# Altium integrated library Vishay Roederstein Electrolytic Axial-Lead Capacitor.IntLib: 155 symbols (part 1 of 3)
Pins are listed as number, name and electrical type; pins without a type are passive.

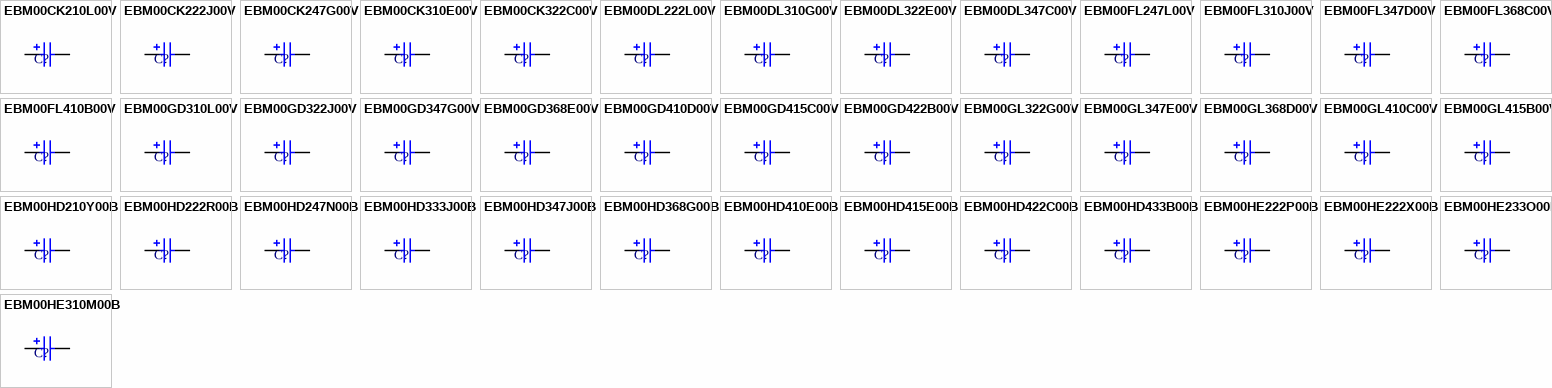
[diagram p0: symbols EBM00CK210L00V to EBM00HE310M00B]

## EBM00CK210L00V
designator C?
Aluminum Electrolytic Capacitor, Axial Miniature: 10uF, 100V; Note: Bulk Pack Part No. shown, refer to Manufacturer's Data Sheets for other package types; PCB_Layout: Complies with IPC-2221.; DrillSize: Nominal, Rounded To The Nearest 0.1mm; Published: 19-Mar-2004; DatasheetDocument: 8-Apr-2002; PackageReference: CAPPA14.05-10.5x6.3; Publisher: Altium Limited; ComponentLink1Description: Manufacturer Link; ComponentLink1URL: http://www.vishay.com/; ComponentLink2Description: Datasheet; ComponentLink2URL: http://www.vishay.com/docs/25140/elebegm.pdf; Value: 10uF
footprint CAPPA14.05-10.5x6.3 (Capacitor, Electrolytic, Axial; Body 10.5 x 6.3 mm (LxDia. max), Lead Dia. 0.6 mm (typ))
simulation model CAP (Capacitor)
signal-integrity model EBM00CK210L00V
pins: 1, 2
1 alternate drawing of the same symbol

## EBM00CK222J00V
designator C?
Aluminum Electrolytic Capacitor, Axial Miniature: 22uF, 63V; Note: Bulk Pack Part No. shown, refer to Manufacturer's Data Sheets for other package types; PCB_Layout: Complies with IPC-2221.; DrillSize: Nominal, Rounded To The Nearest 0.1mm; Published: 19-Mar-2004; DatasheetDocument: 8-Apr-2002; PackageReference: CAPPA14.05-10.5x6.3; Publisher: Altium Limited; ComponentLink1Description: Manufacturer Link; ComponentLink1URL: http://www.vishay.com/; ComponentLink2Description: Datasheet; ComponentLink2URL: http://www.vishay.com/docs/25140/elebegm.pdf; Value: 22uF
footprint CAPPA14.05-10.5x6.3 (Capacitor, Electrolytic, Axial; Body 10.5 x 6.3 mm (LxDia. max), Lead Dia. 0.6 mm (typ))
simulation model CAP (Capacitor)
signal-integrity model EBM00CK222J00V
pins: 1, 2
1 alternate drawing of the same symbol

## EBM00CK247G00V
designator C?
Aluminum Electrolytic Capacitor, Axial Miniature: 47uF, 40V; Note: Bulk Pack Part No. shown, refer to Manufacturer's Data Sheets for other package types; PCB_Layout: Complies with IPC-2221.; DrillSize: Nominal, Rounded To The Nearest 0.1mm; Published: 19-Mar-2004; DatasheetDocument: 8-Apr-2002; PackageReference: CAPPA14.05-10.5x6.3; Publisher: Altium Limited; ComponentLink1Description: Manufacturer Link; ComponentLink1URL: http://www.vishay.com/; ComponentLink2Description: Datasheet; ComponentLink2URL: http://www.vishay.com/docs/25140/elebegm.pdf; Value: 47uF
footprint CAPPA14.05-10.5x6.3 (Capacitor, Electrolytic, Axial; Body 10.5 x 6.3 mm (LxDia. max), Lead Dia. 0.6 mm (typ))
simulation model CAP (Capacitor)
signal-integrity model EBM00CK247G00V
pins: 1, 2
1 alternate drawing of the same symbol

## EBM00CK310E00V
designator C?
Aluminum Electrolytic Capacitor, Axial Miniature: 100uF, 25V; Note: Bulk Pack Part No. shown, refer to Manufacturer's Data Sheets for other package types; PCB_Layout: Complies with IPC-2221.; DrillSize: Nominal, Rounded To The Nearest 0.1mm; Published: 19-Mar-2004; DatasheetDocument: 8-Apr-2002; PackageReference: CAPPA14.05-10.5x6.3; Publisher: Altium Limited; ComponentLink1Description: Manufacturer Link; ComponentLink1URL: http://www.vishay.com/; ComponentLink2Description: Datasheet; ComponentLink2URL: http://www.vishay.com/docs/25140/elebegm.pdf; Value: 100uF
footprint CAPPA14.05-10.5x6.3 (Capacitor, Electrolytic, Axial; Body 10.5 x 6.3 mm (LxDia. max), Lead Dia. 0.6 mm (typ))
simulation model CAP (Capacitor)
signal-integrity model EBM00CK310E00V
pins: 1, 2
1 alternate drawing of the same symbol

## EBM00CK322C00V
designator C?
Aluminum Electrolytic Capacitor, Axial Miniature: 220uF, 10V; Note: Bulk Pack Part No. shown, refer to Manufacturer's Data Sheets for other package types; PCB_Layout: Complies with IPC-2221.; DrillSize: Nominal, Rounded To The Nearest 0.1mm; Published: 19-Mar-2004; DatasheetDocument: 8-Apr-2002; PackageReference: CAPPA14.05-10.5x6.3; Publisher: Altium Limited; ComponentLink1Description: Manufacturer Link; ComponentLink1URL: http://www.vishay.com/; ComponentLink2Description: Datasheet; ComponentLink2URL: http://www.vishay.com/docs/25140/elebegm.pdf; Value: 220uF
footprint CAPPA14.05-10.5x6.3 (Capacitor, Electrolytic, Axial; Body 10.5 x 6.3 mm (LxDia. max), Lead Dia. 0.6 mm (typ))
simulation model CAP (Capacitor)
signal-integrity model EBM00CK322C00V
pins: 1, 2
1 alternate drawing of the same symbol

## EBM00DL222L00V
designator C?
Aluminum Electrolytic Capacitor, Axial Miniature: 22uF, 100V; Note: Bulk Pack Part No. shown, refer to Manufacturer's Data Sheets for other package types; PCB_Layout: Complies with IPC-2221.; DrillSize: Nominal, Rounded To The Nearest 0.1mm; Published: 19-Mar-2004; DatasheetDocument: 8-Apr-2002; PackageReference: CAPPA23.6-18.5x6.9; Publisher: Altium Limited; ComponentLink1Description: Manufacturer Link; ComponentLink1URL: http://www.vishay.com/; ComponentLink2Description: Datasheet; ComponentLink2URL: http://www.vishay.com/docs/25140/elebegm.pdf; Value: 22uF
footprint CAPPA23.6-18.5x6.9 (Capacitor, Electrolytic, Axial; Body 18.5 x 6.9 mm (LxDia. max), Lead Dia. 0.8 mm (typ))
simulation model CAP (Capacitor)
signal-integrity model EBM00DL222L00V
pins: 1, 2
1 alternate drawing of the same symbol

## EBM00DL310G00V
designator C?
Aluminum Electrolytic Capacitor, Axial Miniature: 100uF, 40V; Note: Bulk Pack Part No. shown, refer to Manufacturer's Data Sheets for other package types; PCB_Layout: Complies with IPC-2221.; DrillSize: Nominal, Rounded To The Nearest 0.1mm; Published: 19-Mar-2004; DatasheetDocument: 8-Apr-2002; PackageReference: CAPPA23.6-18.5x6.9; Publisher: Altium Limited; ComponentLink1Description: Manufacturer Link; ComponentLink1URL: http://www.vishay.com/; ComponentLink2Description: Datasheet; ComponentLink2URL: http://www.vishay.com/docs/25140/elebegm.pdf; Value: 100uF
footprint CAPPA23.6-18.5x6.9 (Capacitor, Electrolytic, Axial; Body 18.5 x 6.9 mm (LxDia. max), Lead Dia. 0.8 mm (typ))
simulation model CAP (Capacitor)
signal-integrity model EBM00DL310G00V
pins: 1, 2
1 alternate drawing of the same symbol

## EBM00DL322E00V
designator C?
Aluminum Electrolytic Capacitor, Axial Miniature: 220uF, 25V; Note: Bulk Pack Part No. shown, refer to Manufacturer's Data Sheets for other package types; PCB_Layout: Complies with IPC-2221.; DrillSize: Nominal, Rounded To The Nearest 0.1mm; Published: 19-Mar-2004; DatasheetDocument: 8-Apr-2002; PackageReference: CAPPA23.6-18.5x6.9; Publisher: Altium Limited; ComponentLink1Description: Manufacturer Link; ComponentLink1URL: http://www.vishay.com/; ComponentLink2Description: Datasheet; ComponentLink2URL: http://www.vishay.com/docs/25140/elebegm.pdf; Value: 220uF
footprint CAPPA23.6-18.5x6.9 (Capacitor, Electrolytic, Axial; Body 18.5 x 6.9 mm (LxDia. max), Lead Dia. 0.8 mm (typ))
simulation model CAP (Capacitor)
signal-integrity model EBM00DL322E00V
pins: 1, 2
1 alternate drawing of the same symbol

## EBM00DL347C00V
designator C?
Aluminum Electrolytic Capacitor, Axial Miniature: 470uF, 10V; Note: Bulk Pack Part No. shown, refer to Manufacturer's Data Sheets for other package types; PCB_Layout: Complies with IPC-2221.; DrillSize: Nominal, Rounded To The Nearest 0.1mm; Published: 19-Mar-2004; DatasheetDocument: 8-Apr-2002; PackageReference: CAPPA23.6-18.5x6.9; Publisher: Altium Limited; ComponentLink1Description: Manufacturer Link; ComponentLink1URL: http://www.vishay.com/; ComponentLink2Description: Datasheet; ComponentLink2URL: http://www.vishay.com/docs/25140/elebegm.pdf; Value: 470uF
footprint CAPPA23.6-18.5x6.9 (Capacitor, Electrolytic, Axial; Body 18.5 x 6.9 mm (LxDia. max), Lead Dia. 0.8 mm (typ))
simulation model CAP (Capacitor)
signal-integrity model EBM00DL347C00V
pins: 1, 2
1 alternate drawing of the same symbol

## EBM00FL247L00V
designator C?
Aluminum Electrolytic Capacitor, Axial Miniature: 47uF, 100V; Note: Bulk Pack Part No. shown, refer to Manufacturer's Data Sheets for other package types; PCB_Layout: Complies with IPC-2221.; DrillSize: Nominal, Rounded To The Nearest 0.1mm; Published: 19-Mar-2004; DatasheetDocument: 8-Apr-2002; PackageReference: CAPPA23.6-18.5x8.5; Publisher: Altium Limited; ComponentLink1Description: Manufacturer Link; ComponentLink1URL: http://www.vishay.com/; ComponentLink2Description: Datasheet; ComponentLink2URL: http://www.vishay.com/docs/25140/elebegm.pdf; Value: 47uF
footprint CAPPA23.6-18.5x8.5 (Capacitor, Electrolytic, Axial; Body 18.5 x 8.5 mm (LxDia. max), Lead Dia. 0.8 mm (typ))
simulation model CAP (Capacitor)
signal-integrity model EBM00FL247L00V
pins: 1, 2
1 alternate drawing of the same symbol

## EBM00FL310J00V
designator C?
Aluminum Electrolytic Capacitor, Axial Miniature: 100uF, 63V; Note: Bulk Pack Part No. shown, refer to Manufacturer's Data Sheets for other package types; PCB_Layout: Complies with IPC-2221.; DrillSize: Nominal, Rounded To The Nearest 0.1mm; Published: 19-Mar-2004; DatasheetDocument: 8-Apr-2002; PackageReference: CAPPA23.6-18.5x8.5; Publisher: Altium Limited; ComponentLink1Description: Manufacturer Link; ComponentLink1URL: http://www.vishay.com/; ComponentLink2Description: Datasheet; ComponentLink2URL: http://www.vishay.com/docs/25140/elebegm.pdf; Value: 100uF
footprint CAPPA23.6-18.5x8.5 (Capacitor, Electrolytic, Axial; Body 18.5 x 8.5 mm (LxDia. max), Lead Dia. 0.8 mm (typ))
simulation model CAP (Capacitor)
signal-integrity model EBM00FL310J00V
pins: 1, 2
1 alternate drawing of the same symbol

## EBM00FL347D00V
designator C?
Aluminum Electrolytic Capacitor, Axial Miniature: 470uF, 16V; Note: Bulk Pack Part No. shown, refer to Manufacturer's Data Sheets for other package types; PCB_Layout: Complies with IPC-2221.; DrillSize: Nominal, Rounded To The Nearest 0.1mm; Published: 19-Mar-2004; DatasheetDocument: 8-Apr-2002; PackageReference: CAPPA23.6-18.5x8.5; Publisher: Altium Limited; ComponentLink1Description: Manufacturer Link; ComponentLink1URL: http://www.vishay.com/; ComponentLink2Description: Datasheet; ComponentLink2URL: http://www.vishay.com/docs/25140/elebegm.pdf; Value: 470uF
footprint CAPPA23.6-18.5x8.5 (Capacitor, Electrolytic, Axial; Body 18.5 x 8.5 mm (LxDia. max), Lead Dia. 0.8 mm (typ))
simulation model CAP (Capacitor)
signal-integrity model EBM00FL347D00V
pins: 1, 2
1 alternate drawing of the same symbol

## EBM00FL368C00V
designator C?
Aluminum Electrolytic Capacitor, Axial Miniature: 680uF, 10V; Note: Bulk Pack Part No. shown, refer to Manufacturer's Data Sheets for other package types; PCB_Layout: Complies with IPC-2221.; DrillSize: Nominal, Rounded To The Nearest 0.1mm; Published: 19-Mar-2004; DatasheetDocument: 8-Apr-2002; PackageReference: CAPPA23.6-18.5x8.5; Publisher: Altium Limited; ComponentLink1Description: Manufacturer Link; ComponentLink1URL: http://www.vishay.com/; ComponentLink2Description: Datasheet; ComponentLink2URL: http://www.vishay.com/docs/25140/elebegm.pdf; Value: 680uF
footprint CAPPA23.6-18.5x8.5 (Capacitor, Electrolytic, Axial; Body 18.5 x 8.5 mm (LxDia. max), Lead Dia. 0.8 mm (typ))
simulation model CAP (Capacitor)
signal-integrity model EBM00FL368C00V
pins: 1, 2
1 alternate drawing of the same symbol

## EBM00FL410B00V
designator C?
Aluminum Electrolytic Capacitor, Axial Miniature: 1000uF, 6.3V; Note: Bulk Pack Part No. shown, refer to Manufacturer's Data Sheets for other package types; PCB_Layout: Complies with IPC-2221.; DrillSize: Nominal, Rounded To The Nearest 0.1mm; Published: 19-Mar-2004; DatasheetDocument: 8-Apr-2002; PackageReference: CAPPA23.6-18.5x8.5; Publisher: Altium Limited; ComponentLink1Description: Manufacturer Link; ComponentLink1URL: http://www.vishay.com/; ComponentLink2Description: Datasheet; ComponentLink2URL: http://www.vishay.com/docs/25140/elebegm.pdf; Value: 1000uF
footprint CAPPA23.6-18.5x8.5 (Capacitor, Electrolytic, Axial; Body 18.5 x 8.5 mm (LxDia. max), Lead Dia. 0.8 mm (typ))
simulation model CAP (Capacitor)
signal-integrity model EBM00FL410B00V
pins: 1, 2
1 alternate drawing of the same symbol

## EBM00GD310L00V
designator C?
Aluminum Electrolytic Capacitor, Axial Miniature: 100uF, 100V; Note: Bulk Pack Part No. shown, refer to Manufacturer's Data Sheets for other package types; PCB_Layout: Complies with IPC-2221.; DrillSize: Nominal, Rounded To The Nearest 0.1mm; Published: 19-Mar-2004; DatasheetDocument: 8-Apr-2002; PackageReference: CAPPA31.1-26x10.5; Publisher: Altium Limited; ComponentLink1Description: Manufacturer Link; ComponentLink1URL: http://www.vishay.com/; ComponentLink2Description: Datasheet; ComponentLink2URL: http://www.vishay.com/docs/25140/elebegm.pdf; Value: 100uF
footprint CAPPA31.1-26x10.5 (Capacitor, Electrolytic, Axial; Body 26 x 10.5 mm (LxDia. max), Lead Dia. 0.8 mm (typ))
simulation model CAP (Capacitor)
signal-integrity model EBM00GD310L00V
pins: 1, 2
1 alternate drawing of the same symbol

## EBM00GD322J00V
designator C?
Aluminum Electrolytic Capacitor, Axial Miniature: 220uF, 63V; Note: Bulk Pack Part No. shown, refer to Manufacturer's Data Sheets for other package types; PCB_Layout: Complies with IPC-2221.; DrillSize: Nominal, Rounded To The Nearest 0.1mm; Published: 19-Mar-2004; DatasheetDocument: 8-Apr-2002; PackageReference: CAPPA31.1-26x10.5; Publisher: Altium Limited; ComponentLink1Description: Manufacturer Link; ComponentLink1URL: http://www.vishay.com/; ComponentLink2Description: Datasheet; ComponentLink2URL: http://www.vishay.com/docs/25140/elebegm.pdf; Value: 220uF
footprint CAPPA31.1-26x10.5 (Capacitor, Electrolytic, Axial; Body 26 x 10.5 mm (LxDia. max), Lead Dia. 0.8 mm (typ))
simulation model CAP (Capacitor)
signal-integrity model EBM00GD322J00V
pins: 1, 2
1 alternate drawing of the same symbol

## EBM00GD347G00V
designator C?
Aluminum Electrolytic Capacitor, Axial Miniature: 470uF, 40V; Note: Bulk Pack Part No. shown, refer to Manufacturer's Data Sheets for other package types; PCB_Layout: Complies with IPC-2221.; DrillSize: Nominal, Rounded To The Nearest 0.1mm; Published: 19-Mar-2004; DatasheetDocument: 8-Apr-2002; PackageReference: CAPPA31.1-26x10.5; Publisher: Altium Limited; ComponentLink1Description: Manufacturer Link; ComponentLink1URL: http://www.vishay.com/; ComponentLink2Description: Datasheet; ComponentLink2URL: http://www.vishay.com/docs/25140/elebegm.pdf; Value: 470uF
footprint CAPPA31.1-26x10.5 (Capacitor, Electrolytic, Axial; Body 26 x 10.5 mm (LxDia. max), Lead Dia. 0.8 mm (typ))
simulation model CAP (Capacitor)
signal-integrity model EBM00GD347G00V
pins: 1, 2
1 alternate drawing of the same symbol

## EBM00GD368E00V
designator C?
Aluminum Electrolytic Capacitor, Axial Miniature: 680uF, 25V; Note: Bulk Pack Part No. shown, refer to Manufacturer's Data Sheets for other package types; PCB_Layout: Complies with IPC-2221.; DrillSize: Nominal, Rounded To The Nearest 0.1mm; Published: 19-Mar-2004; DatasheetDocument: 8-Apr-2002; PackageReference: CAPPA31.1-26x10.5; Publisher: Altium Limited; ComponentLink1Description: Manufacturer Link; ComponentLink1URL: http://www.vishay.com/; ComponentLink2Description: Datasheet; ComponentLink2URL: http://www.vishay.com/docs/25140/elebegm.pdf; Value: 680uF
footprint CAPPA31.1-26x10.5 (Capacitor, Electrolytic, Axial; Body 26 x 10.5 mm (LxDia. max), Lead Dia. 0.8 mm (typ))
simulation model CAP (Capacitor)
signal-integrity model EBM00GD368E00V
pins: 1, 2
1 alternate drawing of the same symbol

## EBM00GD410D00V
designator C?
Aluminum Electrolytic Capacitor, Axial Miniature: 1000uF, 16V; Note: Bulk Pack Part No. shown, refer to Manufacturer's Data Sheets for other package types; PCB_Layout: Complies with IPC-2221.; DrillSize: Nominal, Rounded To The Nearest 0.1mm; Published: 19-Mar-2004; DatasheetDocument: 8-Apr-2002; PackageReference: CAPPA31.1-26x10.5; Publisher: Altium Limited; ComponentLink1Description: Manufacturer Link; ComponentLink1URL: http://www.vishay.com/; ComponentLink2Description: Datasheet; ComponentLink2URL: http://www.vishay.com/docs/25140/elebegm.pdf; Value: 1000uF
footprint CAPPA31.1-26x10.5 (Capacitor, Electrolytic, Axial; Body 26 x 10.5 mm (LxDia. max), Lead Dia. 0.8 mm (typ))
simulation model CAP (Capacitor)
signal-integrity model EBM00GD410D00V
pins: 1, 2
1 alternate drawing of the same symbol

## EBM00GD415C00V
designator C?
Aluminum Electrolytic Capacitor, Axial Miniature: 1500uF, 10V; Note: Bulk Pack Part No. shown, refer to Manufacturer's Data Sheets for other package types; PCB_Layout: Complies with IPC-2221.; DrillSize: Nominal, Rounded To The Nearest 0.1mm; Published: 19-Mar-2004; DatasheetDocument: 8-Apr-2002; PackageReference: CAPPA31.1-26x10.5; Publisher: Altium Limited; ComponentLink1Description: Manufacturer Link; ComponentLink1URL: http://www.vishay.com/; ComponentLink2Description: Datasheet; ComponentLink2URL: http://www.vishay.com/docs/25140/elebegm.pdf; Value: 1500uF
footprint CAPPA31.1-26x10.5 (Capacitor, Electrolytic, Axial; Body 26 x 10.5 mm (LxDia. max), Lead Dia. 0.8 mm (typ))
simulation model CAP (Capacitor)
signal-integrity model EBM00GD415C00V
pins: 1, 2
1 alternate drawing of the same symbol

## EBM00GD422B00V
designator C?
Aluminum Electrolytic Capacitor, Axial Miniature: 2200uF, 6.3V; Note: Bulk Pack Part No. shown, refer to Manufacturer's Data Sheets for other package types; PCB_Layout: Complies with IPC-2221.; DrillSize: Nominal, Rounded To The Nearest 0.1mm; Published: 19-Mar-2004; DatasheetDocument: 8-Apr-2002; PackageReference: CAPPA31.1-26x10.5; Publisher: Altium Limited; ComponentLink1Description: Manufacturer Link; ComponentLink1URL: http://www.vishay.com/; ComponentLink2Description: Datasheet; ComponentLink2URL: http://www.vishay.com/docs/25140/elebegm.pdf; Value: 2200uF
footprint CAPPA31.1-26x10.5 (Capacitor, Electrolytic, Axial; Body 26 x 10.5 mm (LxDia. max), Lead Dia. 0.8 mm (typ))
simulation model CAP (Capacitor)
signal-integrity model EBM00GD422B00V
pins: 1, 2
1 alternate drawing of the same symbol

## EBM00GL322G00V
designator C?
Aluminum Electrolytic Capacitor, Axial Miniature: 220uF, 40V; Note: Bulk Pack Part No. shown, refer to Manufacturer's Data Sheets for other package types; PCB_Layout: Complies with IPC-2221.; DrillSize: Nominal, Rounded To The Nearest 0.1mm; Published: 19-Mar-2004; DatasheetDocument: 8-Apr-2002; PackageReference: CAPPA23.6-18.5x10.5; Publisher: Altium Limited; ComponentLink1Description: Manufacturer Link; ComponentLink1URL: http://www.vishay.com/; ComponentLink2Description: Datasheet; ComponentLink2URL: http://www.vishay.com/docs/25140/elebegm.pdf; Value: 220uF
footprint CAPPA23.6-18.5x10.5 (Capacitor, Electrolytic, Axial; Body 18.5 x 10.5 mm (LxDia. max), Lead Dia. 0.8 mm (typ))
simulation model CAP (Capacitor)
signal-integrity model EBM00GL322G00V
pins: 1, 2
1 alternate drawing of the same symbol

## EBM00GL347E00V
designator C?
Aluminum Electrolytic Capacitor, Axial Miniature: 470uF, 25V; Note: Bulk Pack Part No. shown, refer to Manufacturer's Data Sheets for other package types; PCB_Layout: Complies with IPC-2221.; DrillSize: Nominal, Rounded To The Nearest 0.1mm; Published: 19-Mar-2004; DatasheetDocument: 8-Apr-2002; PackageReference: CAPPA23.6-18.5x10.5; Publisher: Altium Limited; ComponentLink1Description: Manufacturer Link; ComponentLink1URL: http://www.vishay.com/; ComponentLink2Description: Datasheet; ComponentLink2URL: http://www.vishay.com/docs/25140/elebegm.pdf; Value: 470uF
footprint CAPPA23.6-18.5x10.5 (Capacitor, Electrolytic, Axial; Body 18.5 x 10.5 mm (LxDia. max), Lead Dia. 0.8 mm (typ))
simulation model CAP (Capacitor)
signal-integrity model EBM00GL347E00V
pins: 1, 2
1 alternate drawing of the same symbol

## EBM00GL368D00V
designator C?
Aluminum Electrolytic Capacitor, Axial Miniature: 680uF, 16V; Note: Bulk Pack Part No. shown, refer to Manufacturer's Data Sheets for other package types; PCB_Layout: Complies with IPC-2221.; DrillSize: Nominal, Rounded To The Nearest 0.1mm; Published: 19-Mar-2004; DatasheetDocument: 8-Apr-2002; PackageReference: CAPPA23.6-18.5x10.5; Publisher: Altium Limited; ComponentLink1Description: Manufacturer Link; ComponentLink1URL: http://www.vishay.com/; ComponentLink2Description: Datasheet; ComponentLink2URL: http://www.vishay.com/docs/25140/elebegm.pdf; Value: 680uF
footprint CAPPA23.6-18.5x10.5 (Capacitor, Electrolytic, Axial; Body 18.5 x 10.5 mm (LxDia. max), Lead Dia. 0.8 mm (typ))
simulation model CAP (Capacitor)
signal-integrity model EBM00GL368D00V
pins: 1, 2
1 alternate drawing of the same symbol

## EBM00GL410C00V
designator C?
Aluminum Electrolytic Capacitor, Axial Miniature: 1000uF, 10V; Note: Bulk Pack Part No. shown, refer to Manufacturer's Data Sheets for other package types; PCB_Layout: Complies with IPC-2221.; DrillSize: Nominal, Rounded To The Nearest 0.1mm; Published: 19-Mar-2004; DatasheetDocument: 8-Apr-2002; PackageReference: CAPPA23.6-18.5x10.5; Publisher: Altium Limited; ComponentLink1Description: Manufacturer Link; ComponentLink1URL: http://www.vishay.com/; ComponentLink2Description: Datasheet; ComponentLink2URL: http://www.vishay.com/docs/25140/elebegm.pdf; Value: 1000uF
footprint CAPPA23.6-18.5x10.5 (Capacitor, Electrolytic, Axial; Body 18.5 x 10.5 mm (LxDia. max), Lead Dia. 0.8 mm (typ))
simulation model CAP (Capacitor)
signal-integrity model EBM00GL410C00V
pins: 1, 2
1 alternate drawing of the same symbol

## EBM00GL415B00V
designator C?
Aluminum Electrolytic Capacitor, Axial Miniature: 1500uF, 6.3V; Note: Bulk Pack Part No. shown, refer to Manufacturer's Data Sheets for other package types; PCB_Layout: Complies with IPC-2221.; DrillSize: Nominal, Rounded To The Nearest 0.1mm; Published: 19-Mar-2004; DatasheetDocument: 8-Apr-2002; PackageReference: CAPPA23.6-18.5x10.5; Publisher: Altium Limited; ComponentLink1Description: Manufacturer Link; ComponentLink1URL: http://www.vishay.com/; ComponentLink2Description: Datasheet; ComponentLink2URL: http://www.vishay.com/docs/25140/elebegm.pdf; Value: 1500uF
footprint CAPPA23.6-18.5x10.5 (Capacitor, Electrolytic, Axial; Body 18.5 x 10.5 mm (LxDia. max), Lead Dia. 0.8 mm (typ))
simulation model CAP (Capacitor)
signal-integrity model EBM00GL415B00V
pins: 1, 2
1 alternate drawing of the same symbol

## EBM00HD210Y00B
designator C?
Aluminum Electrolytic Capacitor, Axial Miniature: 10uF, 500V; Note: Bulk Pack Part No. shown, refer to Manufacturer's Data Sheets for other package types; PCB_Layout: Complies with IPC-2221.; DrillSize: Nominal, Rounded To The Nearest 0.1mm; Published: 19-Mar-2004; DatasheetDocument: 8-Apr-2002; PackageReference: CAPPA31.6-26.5x12.5; Publisher: Altium Limited; ComponentLink1Description: Manufacturer Link; ComponentLink1URL: http://www.vishay.com/; ComponentLink2Description: Datasheet; ComponentLink2URL: http://www.vishay.com/docs/25140/elebegm.pdf; Value: 10uF
footprint CAPPA31.6-26.5x12.5 (Capacitor, Electrolytic, Axial; Body 26.5 x 12.5 mm (LxDia. max), Lead Dia. 0.8 mm (typ))
simulation model CAP (Capacitor)
signal-integrity model EBM00HD210Y00B
pins: 1, 2
1 alternate drawing of the same symbol

## EBM00HD222R00B
designator C?
Aluminum Electrolytic Capacitor, Axial Miniature: 22uF, 385V; Note: Bulk Pack Part No. shown, refer to Manufacturer's Data Sheets for other package types; PCB_Layout: Complies with IPC-2221.; DrillSize: Nominal, Rounded To The Nearest 0.1mm; Published: 19-Mar-2004; DatasheetDocument: 8-Apr-2002; PackageReference: CAPPA31.6-26.5x12.5; Publisher: Altium Limited; ComponentLink1Description: Manufacturer Link; ComponentLink1URL: http://www.vishay.com/; ComponentLink2Description: Datasheet; ComponentLink2URL: http://www.vishay.com/docs/25140/elebegm.pdf; Value: 22uF
footprint CAPPA31.6-26.5x12.5 (Capacitor, Electrolytic, Axial; Body 26.5 x 12.5 mm (LxDia. max), Lead Dia. 0.8 mm (typ))
simulation model CAP (Capacitor)
signal-integrity model EBM00HD222R00B
pins: 1, 2
1 alternate drawing of the same symbol

## EBM00HD247N00B
designator C?
Aluminum Electrolytic Capacitor, Axial Miniature: 47uF, 250V; Note: Bulk Pack Part No. shown, refer to Manufacturer's Data Sheets for other package types; PCB_Layout: Complies with IPC-2221.; DrillSize: Nominal, Rounded To The Nearest 0.1mm; Published: 19-Mar-2004; DatasheetDocument: 8-Apr-2002; PackageReference: CAPPA31.6-26.5x12.5; Publisher: Altium Limited; ComponentLink1Description: Manufacturer Link; ComponentLink1URL: http://www.vishay.com/; ComponentLink2Description: Datasheet; ComponentLink2URL: http://www.vishay.com/docs/25140/elebegm.pdf; Value: 47uF
footprint CAPPA31.6-26.5x12.5 (Capacitor, Electrolytic, Axial; Body 26.5 x 12.5 mm (LxDia. max), Lead Dia. 0.8 mm (typ))
simulation model CAP (Capacitor)
signal-integrity model EBM00HD247N00B
pins: 1, 2
1 alternate drawing of the same symbol

## EBM00HD333J00B
designator C?
Aluminum Electrolytic Capacitor, Axial Miniature: 330uF, 63V; Note: Bulk Pack Part No. shown, refer to Manufacturer's Data Sheets for other package types; PCB_Layout: Complies with IPC-2221.; DrillSize: Nominal, Rounded To The Nearest 0.1mm; Published: 19-Mar-2004; DatasheetDocument: 8-Apr-2002; PackageReference: CAPPA31.6-26.5x12.5; Publisher: Altium Limited; ComponentLink1Description: Manufacturer Link; ComponentLink1URL: http://www.vishay.com/; ComponentLink2Description: Datasheet; ComponentLink2URL: http://www.vishay.com/docs/25140/elebegm.pdf; Value: 330uF
footprint CAPPA31.6-26.5x12.5 (Capacitor, Electrolytic, Axial; Body 26.5 x 12.5 mm (LxDia. max), Lead Dia. 0.8 mm (typ))
simulation model CAP (Capacitor)
signal-integrity model EBM00HD333J00B
pins: 1, 2
1 alternate drawing of the same symbol

## EBM00HD347J00B
designator C?
Aluminum Electrolytic Capacitor, Axial Miniature: 470uF, 63V; Note: Bulk Pack Part No. shown, refer to Manufacturer's Data Sheets for other package types; PCB_Layout: Complies with IPC-2221.; DrillSize: Nominal, Rounded To The Nearest 0.1mm; Published: 19-Mar-2004; DatasheetDocument: 8-Apr-2002; PackageReference: CAPPA31.6-26.5x12.5; Publisher: Altium Limited; ComponentLink1Description: Manufacturer Link; ComponentLink1URL: http://www.vishay.com/; ComponentLink2Description: Datasheet; ComponentLink2URL: http://www.vishay.com/docs/25140/elebegm.pdf; Value: 470uF
footprint CAPPA31.6-26.5x12.5 (Capacitor, Electrolytic, Axial; Body 26.5 x 12.5 mm (LxDia. max), Lead Dia. 0.8 mm (typ))
simulation model CAP (Capacitor)
signal-integrity model EBM00HD347J00B
pins: 1, 2
1 alternate drawing of the same symbol

## EBM00HD368G00B
designator C?
Aluminum Electrolytic Capacitor, Axial Miniature: 680uF, 40V; Note: Bulk Pack Part No. shown, refer to Manufacturer's Data Sheets for other package types; PCB_Layout: Complies with IPC-2221.; DrillSize: Nominal, Rounded To The Nearest 0.1mm; Published: 19-Mar-2004; DatasheetDocument: 8-Apr-2002; PackageReference: CAPPA31.6-26.5x12.5; Publisher: Altium Limited; ComponentLink1Description: Manufacturer Link; ComponentLink1URL: http://www.vishay.com/; ComponentLink2Description: Datasheet; ComponentLink2URL: http://www.vishay.com/docs/25140/elebegm.pdf; Value: 680uF
footprint CAPPA31.6-26.5x12.5 (Capacitor, Electrolytic, Axial; Body 26.5 x 12.5 mm (LxDia. max), Lead Dia. 0.8 mm (typ))
simulation model CAP (Capacitor)
signal-integrity model EBM00HD368G00B
pins: 1, 2
1 alternate drawing of the same symbol

## EBM00HD410E00B
designator C?
Aluminum Electrolytic Capacitor, Axial Miniature: 1000uF, 25V; Note: Bulk Pack Part No. shown, refer to Manufacturer's Data Sheets for other package types; PCB_Layout: Complies with IPC-2221.; DrillSize: Nominal, Rounded To The Nearest 0.1mm; Published: 19-Mar-2004; DatasheetDocument: 8-Apr-2002; PackageReference: CAPPA31.6-26.5x12.5; Publisher: Altium Limited; ComponentLink1Description: Manufacturer Link; ComponentLink1URL: http://www.vishay.com/; ComponentLink2Description: Datasheet; ComponentLink2URL: http://www.vishay.com/docs/25140/elebegm.pdf; Value: 1000uF
footprint CAPPA31.6-26.5x12.5 (Capacitor, Electrolytic, Axial; Body 26.5 x 12.5 mm (LxDia. max), Lead Dia. 0.8 mm (typ))
simulation model CAP (Capacitor)
signal-integrity model EBM00HD410E00B
pins: 1, 2
1 alternate drawing of the same symbol

## EBM00HD415E00B
designator C?
Aluminum Electrolytic Capacitor, Axial Miniature: 1500uF, 25V; Note: Bulk Pack Part No. shown, refer to Manufacturer's Data Sheets for other package types; PCB_Layout: Complies with IPC-2221.; DrillSize: Nominal, Rounded To The Nearest 0.1mm; Published: 19-Mar-2004; DatasheetDocument: 8-Apr-2002; PackageReference: CAPPA31.6-26.5x12.5; Publisher: Altium Limited; ComponentLink1Description: Manufacturer Link; ComponentLink1URL: http://www.vishay.com/; ComponentLink2Description: Datasheet; ComponentLink2URL: http://www.vishay.com/docs/25140/elebegm.pdf; Value: 1500uF
footprint CAPPA31.6-26.5x12.5 (Capacitor, Electrolytic, Axial; Body 26.5 x 12.5 mm (LxDia. max), Lead Dia. 0.8 mm (typ))
simulation model CAP (Capacitor)
signal-integrity model EBM00HD415E00B
pins: 1, 2
1 alternate drawing of the same symbol

## EBM00HD422C00B
designator C?
Aluminum Electrolytic Capacitor, Axial Miniature: 2200uF, 10V; Note: Bulk Pack Part No. shown, refer to Manufacturer's Data Sheets for other package types; PCB_Layout: Complies with IPC-2221.; DrillSize: Nominal, Rounded To The Nearest 0.1mm; Published: 19-Mar-2004; DatasheetDocument: 8-Apr-2002; PackageReference: CAPPA31.6-26.5x12.5; Publisher: Altium Limited; ComponentLink1Description: Manufacturer Link; ComponentLink1URL: http://www.vishay.com/; ComponentLink2Description: Datasheet; ComponentLink2URL: http://www.vishay.com/docs/25140/elebegm.pdf; Value: 2200uF
footprint CAPPA31.6-26.5x12.5 (Capacitor, Electrolytic, Axial; Body 26.5 x 12.5 mm (LxDia. max), Lead Dia. 0.8 mm (typ))
simulation model CAP (Capacitor)
signal-integrity model EBM00HD422C00B
pins: 1, 2
1 alternate drawing of the same symbol

## EBM00HD433B00B
designator C?
Aluminum Electrolytic Capacitor, Axial Miniature: 3300uF, 6.3V; Note: Bulk Pack Part No. shown, refer to Manufacturer's Data Sheets for other package types; PCB_Layout: Complies with IPC-2221.; DrillSize: Nominal, Rounded To The Nearest 0.1mm; Published: 19-Mar-2004; DatasheetDocument: 8-Apr-2002; PackageReference: CAPPA31.6-26.5x12.5; Publisher: Altium Limited; ComponentLink1Description: Manufacturer Link; ComponentLink1URL: http://www.vishay.com/; ComponentLink2Description: Datasheet; ComponentLink2URL: http://www.vishay.com/docs/25140/elebegm.pdf; Value: 3300uF
footprint CAPPA31.6-26.5x12.5 (Capacitor, Electrolytic, Axial; Body 26.5 x 12.5 mm (LxDia. max), Lead Dia. 0.8 mm (typ))
simulation model CAP (Capacitor)
signal-integrity model EBM00HD433B00B
pins: 1, 2
1 alternate drawing of the same symbol

## EBM00HE222P00B
designator C?
Aluminum Electrolytic Capacitor, Axial Miniature: 22uF, 450V; Note: Bulk Pack Part No. shown, refer to Manufacturer's Data Sheets for other package types; PCB_Layout: Complies with IPC-2221.; DrillSize: Nominal, Rounded To The Nearest 0.1mm; Published: 19-Mar-2004; DatasheetDocument: 8-Apr-2002; PackageReference: CAPPA36.6-31.5x12.5; Publisher: Altium Limited; ComponentLink1Description: Manufacturer Link; ComponentLink1URL: http://www.vishay.com/; ComponentLink2Description: Datasheet; ComponentLink2URL: http://www.vishay.com/docs/25140/elebegm.pdf; Value: 22uF
footprint CAPPA36.6-31.5x12.5 (Capacitor, Electrolytic, Axial; Body 31.5 x 12.5 mm (LxDia. max), Lead Dia. 0.8 mm (typ))
simulation model CAP (Capacitor)
signal-integrity model EBM00HE222P00B
pins: 1, 2
1 alternate drawing of the same symbol

## EBM00HE222X00B
designator C?
Aluminum Electrolytic Capacitor, Axial Miniature: 22uF, 400V; Note: Bulk Pack Part No. shown, refer to Manufacturer's Data Sheets for other package types; PCB_Layout: Complies with IPC-2221.; DrillSize: Nominal, Rounded To The Nearest 0.1mm; Published: 19-Mar-2004; DatasheetDocument: 8-Apr-2002; PackageReference: CAPPA36.6-31.5x12.5; Publisher: Altium Limited; ComponentLink1Description: Manufacturer Link; ComponentLink1URL: http://www.vishay.com/; ComponentLink2Description: Datasheet; ComponentLink2URL: http://www.vishay.com/docs/25140/elebegm.pdf; Value: 22uF
footprint CAPPA36.6-31.5x12.5 (Capacitor, Electrolytic, Axial; Body 31.5 x 12.5 mm (LxDia. max), Lead Dia. 0.8 mm (typ))
simulation model CAP (Capacitor)
signal-integrity model EBM00HE222X00B
pins: 1, 2
1 alternate drawing of the same symbol

## EBM00HE233O00B
designator C?
Aluminum Electrolytic Capacitor, Axial Miniature: 33uF, 350V; Note: Bulk Pack Part No. shown, refer to Manufacturer's Data Sheets for other package types; PCB_Layout: Complies with IPC-2221.; DrillSize: Nominal, Rounded To The Nearest 0.1mm; Published: 19-Mar-2004; DatasheetDocument: 8-Apr-2002; PackageReference: CAPPA36.6-31.5x12.5; Publisher: Altium Limited; ComponentLink1Description: Manufacturer Link; ComponentLink1URL: http://www.vishay.com/; ComponentLink2Description: Datasheet; ComponentLink2URL: http://www.vishay.com/docs/25140/elebegm.pdf; Value: 33uF
footprint CAPPA36.6-31.5x12.5 (Capacitor, Electrolytic, Axial; Body 31.5 x 12.5 mm (LxDia. max), Lead Dia. 0.8 mm (typ))
simulation model CAP (Capacitor)
signal-integrity model EBM00HE233O00B
pins: 1, 2
1 alternate drawing of the same symbol

## EBM00HE310M00B
designator C?
Aluminum Electrolytic Capacitor, Axial Miniature: 100uF, 160V; Note: Bulk Pack Part No. shown, refer to Manufacturer's Data Sheets for other package types; PCB_Layout: Complies with IPC-2221.; DrillSize: Nominal, Rounded To The Nearest 0.1mm; Published: 19-Mar-2004; DatasheetDocument: 8-Apr-2002; PackageReference: CAPPA36.6-31.5x12.5; Publisher: Altium Limited; ComponentLink1Description: Manufacturer Link; ComponentLink1URL: http://www.vishay.com/; ComponentLink2Description: Datasheet; ComponentLink2URL: http://www.vishay.com/docs/25140/elebegm.pdf; Value: 100uF
footprint CAPPA36.6-31.5x12.5 (Capacitor, Electrolytic, Axial; Body 31.5 x 12.5 mm (LxDia. max), Lead Dia. 0.8 mm (typ))
simulation model CAP (Capacitor)
signal-integrity model EBM00HE310M00B
pins: 1, 2
1 alternate drawing of the same symbol

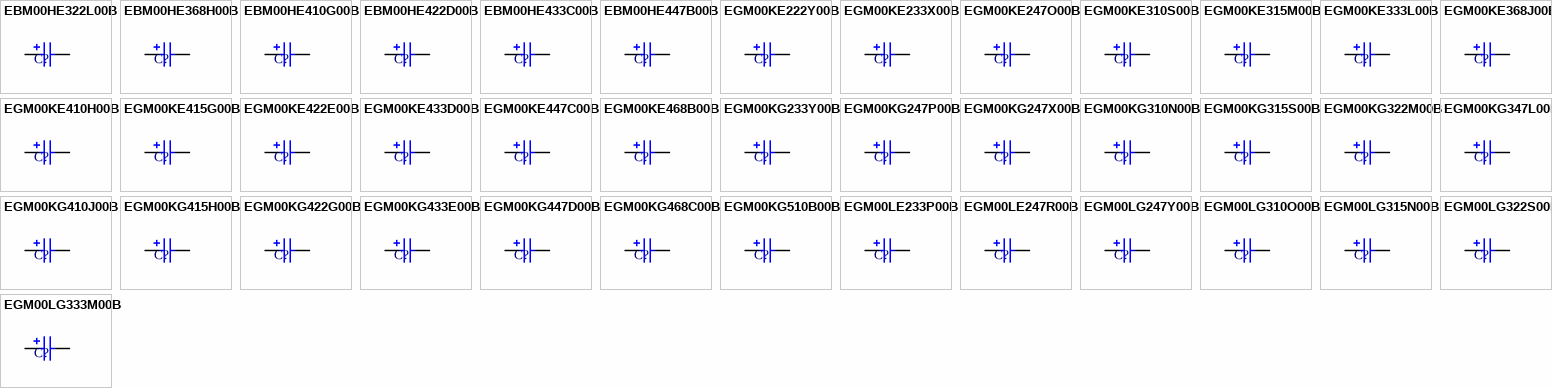
[diagram p1: symbols EBM00HE322L00B to EGM00LG333M00B]

## EBM00HE322L00B
designator C?
Aluminum Electrolytic Capacitor, Axial Miniature: 220uF, 100V; Note: Bulk Pack Part No. shown, refer to Manufacturer's Data Sheets for other package types; PCB_Layout: Complies with IPC-2221.; DrillSize: Nominal, Rounded To The Nearest 0.1mm; Published: 19-Mar-2004; DatasheetDocument: 8-Apr-2002; PackageReference: CAPPA36.6-31.5x12.5; Publisher: Altium Limited; ComponentLink1Description: Manufacturer Link; ComponentLink1URL: http://www.vishay.com/; ComponentLink2Description: Datasheet; ComponentLink2URL: http://www.vishay.com/docs/25140/elebegm.pdf; Value: 220uF
footprint CAPPA36.6-31.5x12.5 (Capacitor, Electrolytic, Axial; Body 31.5 x 12.5 mm (LxDia. max), Lead Dia. 0.8 mm (typ))
simulation model CAP (Capacitor)
signal-integrity model EBM00HE322L00B
pins: 1, 2
1 alternate drawing of the same symbol

## EBM00HE368H00B
designator C?
Aluminum Electrolytic Capacitor, Axial Miniature: 680uF, 50V; Note: Bulk Pack Part No. shown, refer to Manufacturer's Data Sheets for other package types; PCB_Layout: Complies with IPC-2221.; DrillSize: Nominal, Rounded To The Nearest 0.1mm; Published: 19-Mar-2004; DatasheetDocument: 8-Apr-2002; PackageReference: CAPPA36.6-31.5x12.5; Publisher: Altium Limited; ComponentLink1Description: Manufacturer Link; ComponentLink1URL: http://www.vishay.com/; ComponentLink2Description: Datasheet; ComponentLink2URL: http://www.vishay.com/docs/25140/elebegm.pdf; Value: 680uF
footprint CAPPA36.6-31.5x12.5 (Capacitor, Electrolytic, Axial; Body 31.5 x 12.5 mm (LxDia. max), Lead Dia. 0.8 mm (typ))
simulation model CAP (Capacitor)
signal-integrity model EBM00HE368H00B
pins: 1, 2
1 alternate drawing of the same symbol

## EBM00HE410G00B
designator C?
Aluminum Electrolytic Capacitor, Axial Miniature: 1000uF, 40V; Note: Bulk Pack Part No. shown, refer to Manufacturer's Data Sheets for other package types; PCB_Layout: Complies with IPC-2221.; DrillSize: Nominal, Rounded To The Nearest 0.1mm; Published: 19-Mar-2004; DatasheetDocument: 8-Apr-2002; PackageReference: CAPPA36.6-31.5x12.5; Publisher: Altium Limited; ComponentLink1Description: Manufacturer Link; ComponentLink1URL: http://www.vishay.com/; ComponentLink2Description: Datasheet; ComponentLink2URL: http://www.vishay.com/docs/25140/elebegm.pdf; Value: 1000uF
footprint CAPPA36.6-31.5x12.5 (Capacitor, Electrolytic, Axial; Body 31.5 x 12.5 mm (LxDia. max), Lead Dia. 0.8 mm (typ))
simulation model CAP (Capacitor)
signal-integrity model EBM00HE410G00B
pins: 1, 2
1 alternate drawing of the same symbol

## EBM00HE422D00B
designator C?
Aluminum Electrolytic Capacitor, Axial Miniature: 2200uF, 16V; Note: Bulk Pack Part No. shown, refer to Manufacturer's Data Sheets for other package types; PCB_Layout: Complies with IPC-2221.; DrillSize: Nominal, Rounded To The Nearest 0.1mm; Published: 19-Mar-2004; DatasheetDocument: 8-Apr-2002; PackageReference: CAPPA36.6-31.5x12.5; Publisher: Altium Limited; ComponentLink1Description: Manufacturer Link; ComponentLink1URL: http://www.vishay.com/; ComponentLink2Description: Datasheet; ComponentLink2URL: http://www.vishay.com/docs/25140/elebegm.pdf; Value: 2200uF
footprint CAPPA36.6-31.5x12.5 (Capacitor, Electrolytic, Axial; Body 31.5 x 12.5 mm (LxDia. max), Lead Dia. 0.8 mm (typ))
simulation model CAP (Capacitor)
signal-integrity model EBM00HE422D00B
pins: 1, 2
1 alternate drawing of the same symbol

## EBM00HE433C00B
designator C?
Aluminum Electrolytic Capacitor, Axial Miniature: 3300uF, 10V; Note: Bulk Pack Part No. shown, refer to Manufacturer's Data Sheets for other package types; PCB_Layout: Complies with IPC-2221.; DrillSize: Nominal, Rounded To The Nearest 0.1mm; Published: 19-Mar-2004; DatasheetDocument: 8-Apr-2002; PackageReference: CAPPA36.6-31.5x12.5; Publisher: Altium Limited; ComponentLink1Description: Manufacturer Link; ComponentLink1URL: http://www.vishay.com/; ComponentLink2Description: Datasheet; ComponentLink2URL: http://www.vishay.com/docs/25140/elebegm.pdf; Value: 3300uF
footprint CAPPA36.6-31.5x12.5 (Capacitor, Electrolytic, Axial; Body 31.5 x 12.5 mm (LxDia. max), Lead Dia. 0.8 mm (typ))
simulation model CAP (Capacitor)
signal-integrity model EBM00HE433C00B
pins: 1, 2
1 alternate drawing of the same symbol

## EBM00HE447B00B
designator C?
Aluminum Electrolytic Capacitor, Axial Miniature: 4700uF, 6.3V; Note: Bulk Pack Part No. shown, refer to Manufacturer's Data Sheets for other package types; PCB_Layout: Complies with IPC-2221.; DrillSize: Nominal, Rounded To The Nearest 0.1mm; Published: 19-Mar-2004; DatasheetDocument: 8-Apr-2002; PackageReference: CAPPA36.6-31.5x12.5; Publisher: Altium Limited; ComponentLink1Description: Manufacturer Link; ComponentLink1URL: http://www.vishay.com/; ComponentLink2Description: Datasheet; ComponentLink2URL: http://www.vishay.com/docs/25140/elebegm.pdf; Value: 4700uF
footprint CAPPA36.6-31.5x12.5 (Capacitor, Electrolytic, Axial; Body 31.5 x 12.5 mm (LxDia. max), Lead Dia. 0.8 mm (typ))
simulation model CAP (Capacitor)
signal-integrity model EBM00HE447B00B
pins: 1, 2
1 alternate drawing of the same symbol

## EGM00KE222Y00B
designator C?
Aluminum Electrolytic Capacitor, Axial Miniature: 22uF, 500V; Note: Bulk Pack Part No. shown, refer to Manufacturer's Data Sheets for other package types; PCB_Layout: Complies with IPC-2221.; DrillSize: Nominal, Rounded To The Nearest 0.1mm; Published: 19-Mar-2004; DatasheetDocument: 8-Apr-2002; PackageReference: CAPPA36.1-31x16.5; Publisher: Altium Limited; ComponentLink1Description: Manufacturer Link; ComponentLink1URL: http://www.vishay.com/; ComponentLink2Description: Datasheet; ComponentLink2URL: http://www.vishay.com/docs/25140/elebegm.pdf; Value: 22uF
footprint CAPPA36.1-31x16.5 (Capacitor, Electrolytic, Axial; Body 31 x 16.5 mm (LxDia. max), Lead Dia. 0.8 mm (typ))
simulation model CAP (Capacitor)
signal-integrity model EGM00KE222Y00B
pins: 1, 2
1 alternate drawing of the same symbol

## EGM00KE233X00B
designator C?
Aluminum Electrolytic Capacitor, Axial Miniature: 33uF, 400V; Note: Bulk Pack Part No. shown, refer to Manufacturer's Data Sheets for other package types; PCB_Layout: Complies with IPC-2221.; DrillSize: Nominal, Rounded To The Nearest 0.1mm; Published: 19-Mar-2004; DatasheetDocument: 8-Apr-2002; PackageReference: CAPPA36.1-31x16.5; Publisher: Altium Limited; ComponentLink1Description: Manufacturer Link; ComponentLink1URL: http://www.vishay.com/; ComponentLink2Description: Datasheet; ComponentLink2URL: http://www.vishay.com/docs/25140/elebegm.pdf; Value: 33uF
footprint CAPPA36.1-31x16.5 (Capacitor, Electrolytic, Axial; Body 31 x 16.5 mm (LxDia. max), Lead Dia. 0.8 mm (typ))
simulation model CAP (Capacitor)
signal-integrity model EGM00KE233X00B
pins: 1, 2
1 alternate drawing of the same symbol

## EGM00KE247O00B
designator C?
Aluminum Electrolytic Capacitor, Axial Miniature: 47uF, 350V; Note: Bulk Pack Part No. shown, refer to Manufacturer's Data Sheets for other package types; PCB_Layout: Complies with IPC-2221.; DrillSize: Nominal, Rounded To The Nearest 0.1mm; Published: 19-Mar-2004; DatasheetDocument: 8-Apr-2002; PackageReference: CAPPA36.1-31x16.5; Publisher: Altium Limited; ComponentLink1Description: Manufacturer Link; ComponentLink1URL: http://www.vishay.com/; ComponentLink2Description: Datasheet; ComponentLink2URL: http://www.vishay.com/docs/25140/elebegm.pdf; Value: 47uF
footprint CAPPA36.1-31x16.5 (Capacitor, Electrolytic, Axial; Body 31 x 16.5 mm (LxDia. max), Lead Dia. 0.8 mm (typ))
simulation model CAP (Capacitor)
signal-integrity model EGM00KE247O00B
pins: 1, 2
1 alternate drawing of the same symbol

## EGM00KE310S00B
designator C?
Aluminum Electrolytic Capacitor, Axial Miniature: 100uF, 200V; Note: Bulk Pack Part No. shown, refer to Manufacturer's Data Sheets for other package types; PCB_Layout: Complies with IPC-2221.; DrillSize: Nominal, Rounded To The Nearest 0.1mm; Published: 19-Mar-2004; DatasheetDocument: 8-Apr-2002; PackageReference: CAPPA36.1-31x16.5; Publisher: Altium Limited; ComponentLink1Description: Manufacturer Link; ComponentLink1URL: http://www.vishay.com/; ComponentLink2Description: Datasheet; ComponentLink2URL: http://www.vishay.com/docs/25140/elebegm.pdf; Value: 100uF
footprint CAPPA36.1-31x16.5 (Capacitor, Electrolytic, Axial; Body 31 x 16.5 mm (LxDia. max), Lead Dia. 0.8 mm (typ))
simulation model CAP (Capacitor)
signal-integrity model EGM00KE310S00B
pins: 1, 2
1 alternate drawing of the same symbol

## EGM00KE315M00B
designator C?
Aluminum Electrolytic Capacitor, Axial Miniature: 150uF, 160V; Note: Bulk Pack Part No. shown, refer to Manufacturer's Data Sheets for other package types; PCB_Layout: Complies with IPC-2221.; DrillSize: Nominal, Rounded To The Nearest 0.1mm; Published: 19-Mar-2004; DatasheetDocument: 8-Apr-2002; PackageReference: CAPPA36.1-31x16.5; Publisher: Altium Limited; ComponentLink1Description: Manufacturer Link; ComponentLink1URL: http://www.vishay.com/; ComponentLink2Description: Datasheet; ComponentLink2URL: http://www.vishay.com/docs/25140/elebegm.pdf; Value: 150uF
footprint CAPPA36.1-31x16.5 (Capacitor, Electrolytic, Axial; Body 31 x 16.5 mm (LxDia. max), Lead Dia. 0.8 mm (typ))
simulation model CAP (Capacitor)
signal-integrity model EGM00KE315M00B
pins: 1, 2
1 alternate drawing of the same symbol

## EGM00KE333L00B
designator C?
Aluminum Electrolytic Capacitor, Axial Miniature: 330uF, 100V; Note: Bulk Pack Part No. shown, refer to Manufacturer's Data Sheets for other package types; PCB_Layout: Complies with IPC-2221.; DrillSize: Nominal, Rounded To The Nearest 0.1mm; Published: 19-Mar-2004; DatasheetDocument: 8-Apr-2002; PackageReference: CAPPA36.1-31x16.5; Publisher: Altium Limited; ComponentLink1Description: Manufacturer Link; ComponentLink1URL: http://www.vishay.com/; ComponentLink2Description: Datasheet; ComponentLink2URL: http://www.vishay.com/docs/25140/elebegm.pdf; Value: 330uF
footprint CAPPA36.1-31x16.5 (Capacitor, Electrolytic, Axial; Body 31 x 16.5 mm (LxDia. max), Lead Dia. 0.8 mm (typ))
simulation model CAP (Capacitor)
signal-integrity model EGM00KE333L00B
pins: 1, 2
1 alternate drawing of the same symbol

## EGM00KE368J00B
designator C?
Aluminum Electrolytic Capacitor, Axial Miniature: 680uF, 63V; Note: Bulk Pack Part No. shown, refer to Manufacturer's Data Sheets for other package types; PCB_Layout: Complies with IPC-2221.; DrillSize: Nominal, Rounded To The Nearest 0.1mm; Published: 19-Mar-2004; DatasheetDocument: 8-Apr-2002; PackageReference: CAPPA36.1-31x16.5; Publisher: Altium Limited; ComponentLink1Description: Manufacturer Link; ComponentLink1URL: http://www.vishay.com/; ComponentLink2Description: Datasheet; ComponentLink2URL: http://www.vishay.com/docs/25140/elebegm.pdf; Value: 680uF
footprint CAPPA36.1-31x16.5 (Capacitor, Electrolytic, Axial; Body 31 x 16.5 mm (LxDia. max), Lead Dia. 0.8 mm (typ))
simulation model CAP (Capacitor)
signal-integrity model EGM00KE368J00B
pins: 1, 2
1 alternate drawing of the same symbol

## EGM00KE410H00B
designator C?
Aluminum Electrolytic Capacitor, Axial Miniature: 1000uF, 50V; Note: Bulk Pack Part No. shown, refer to Manufacturer's Data Sheets for other package types; PCB_Layout: Complies with IPC-2221.; DrillSize: Nominal, Rounded To The Nearest 0.1mm; Published: 19-Mar-2004; DatasheetDocument: 8-Apr-2002; PackageReference: CAPPA36.1-31x16.5; Publisher: Altium Limited; ComponentLink1Description: Manufacturer Link; ComponentLink1URL: http://www.vishay.com/; ComponentLink2Description: Datasheet; ComponentLink2URL: http://www.vishay.com/docs/25140/elebegm.pdf; Value: 1000uF
footprint CAPPA36.1-31x16.5 (Capacitor, Electrolytic, Axial; Body 31 x 16.5 mm (LxDia. max), Lead Dia. 0.8 mm (typ))
simulation model CAP (Capacitor)
signal-integrity model EGM00KE410H00B
pins: 1, 2
1 alternate drawing of the same symbol

## EGM00KE415G00B
designator C?
Aluminum Electrolytic Capacitor, Axial Miniature: 1500uF, 40V; Note: Bulk Pack Part No. shown, refer to Manufacturer's Data Sheets for other package types; PCB_Layout: Complies with IPC-2221.; DrillSize: Nominal, Rounded To The Nearest 0.1mm; Published: 19-Mar-2004; DatasheetDocument: 8-Apr-2002; PackageReference: CAPPA36.1-31x16.5; Publisher: Altium Limited; ComponentLink1Description: Manufacturer Link; ComponentLink1URL: http://www.vishay.com/; ComponentLink2Description: Datasheet; ComponentLink2URL: http://www.vishay.com/docs/25140/elebegm.pdf; Value: 1500uF
footprint CAPPA36.1-31x16.5 (Capacitor, Electrolytic, Axial; Body 31 x 16.5 mm (LxDia. max), Lead Dia. 0.8 mm (typ))
simulation model CAP (Capacitor)
signal-integrity model EGM00KE415G00B
pins: 1, 2
1 alternate drawing of the same symbol

## EGM00KE422E00B
designator C?
Aluminum Electrolytic Capacitor, Axial Miniature: 2200uF, 25V; Note: Bulk Pack Part No. shown, refer to Manufacturer's Data Sheets for other package types; PCB_Layout: Complies with IPC-2221.; DrillSize: Nominal, Rounded To The Nearest 0.1mm; Published: 19-Mar-2004; DatasheetDocument: 8-Apr-2002; PackageReference: CAPPA36.1-31x16.5; Publisher: Altium Limited; ComponentLink1Description: Manufacturer Link; ComponentLink1URL: http://www.vishay.com/; ComponentLink2Description: Datasheet; ComponentLink2URL: http://www.vishay.com/docs/25140/elebegm.pdf; Value: 2200uF
footprint CAPPA36.1-31x16.5 (Capacitor, Electrolytic, Axial; Body 31 x 16.5 mm (LxDia. max), Lead Dia. 0.8 mm (typ))
simulation model CAP (Capacitor)
signal-integrity model EGM00KE422E00B
pins: 1, 2
1 alternate drawing of the same symbol

## EGM00KE433D00B
designator C?
Aluminum Electrolytic Capacitor, Axial Miniature: 3300uF, 16V; Note: Bulk Pack Part No. shown, refer to Manufacturer's Data Sheets for other package types; PCB_Layout: Complies with IPC-2221.; DrillSize: Nominal, Rounded To The Nearest 0.1mm; Published: 19-Mar-2004; DatasheetDocument: 8-Apr-2002; PackageReference: CAPPA36.1-31x16.5; Publisher: Altium Limited; ComponentLink1Description: Manufacturer Link; ComponentLink1URL: http://www.vishay.com/; ComponentLink2Description: Datasheet; ComponentLink2URL: http://www.vishay.com/docs/25140/elebegm.pdf; Value: 3300uF
footprint CAPPA36.1-31x16.5 (Capacitor, Electrolytic, Axial; Body 31 x 16.5 mm (LxDia. max), Lead Dia. 0.8 mm (typ))
simulation model CAP (Capacitor)
signal-integrity model EGM00KE433D00B
pins: 1, 2
1 alternate drawing of the same symbol

## EGM00KE447C00B
designator C?
Aluminum Electrolytic Capacitor, Axial Miniature: 4700uF, 10V; Note: Bulk Pack Part No. shown, refer to Manufacturer's Data Sheets for other package types; PCB_Layout: Complies with IPC-2221.; DrillSize: Nominal, Rounded To The Nearest 0.1mm; Published: 19-Mar-2004; DatasheetDocument: 8-Apr-2002; PackageReference: CAPPA36.1-31x16.5; Publisher: Altium Limited; ComponentLink1Description: Manufacturer Link; ComponentLink1URL: http://www.vishay.com/; ComponentLink2Description: Datasheet; ComponentLink2URL: http://www.vishay.com/docs/25140/elebegm.pdf; Value: 4700uF
footprint CAPPA36.1-31x16.5 (Capacitor, Electrolytic, Axial; Body 31 x 16.5 mm (LxDia. max), Lead Dia. 0.8 mm (typ))
simulation model CAP (Capacitor)
signal-integrity model EGM00KE447C00B
pins: 1, 2
1 alternate drawing of the same symbol

## EGM00KE468B00B
designator C?
Aluminum Electrolytic Capacitor, Axial Miniature: 6800uF, 6.3V; Note: Bulk Pack Part No. shown, refer to Manufacturer's Data Sheets for other package types; PCB_Layout: Complies with IPC-2221.; DrillSize: Nominal, Rounded To The Nearest 0.1mm; Published: 19-Mar-2004; DatasheetDocument: 8-Apr-2002; PackageReference: CAPPA36.1-31x16.5; Publisher: Altium Limited; ComponentLink1Description: Manufacturer Link; ComponentLink1URL: http://www.vishay.com/; ComponentLink2Description: Datasheet; ComponentLink2URL: http://www.vishay.com/docs/25140/elebegm.pdf; Value: 6800uF
footprint CAPPA36.1-31x16.5 (Capacitor, Electrolytic, Axial; Body 31 x 16.5 mm (LxDia. max), Lead Dia. 0.8 mm (typ))
simulation model CAP (Capacitor)
signal-integrity model EGM00KE468B00B
pins: 1, 2
1 alternate drawing of the same symbol